# EAGLE library part NCP2890 (library QuantumOptics)
1W Audio Amp, On Semi, 2.6-5V. http://www.onsemi.com/PowerSolutions/product.do?id=NCP2890
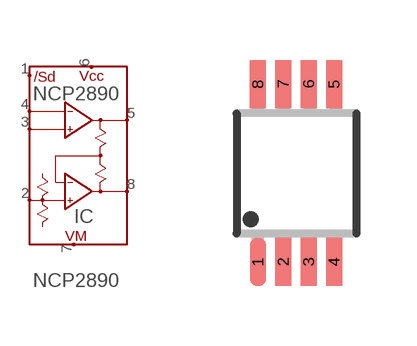
[diagram p79: symbol with the pads of MSOP8; footprint MSOP8]

Designator prefix IC

## NCP2890DRM2  [MSOP8]
1  ~SD  in
2  BYPASS  in
3  IN+  in
4  IN-  in
5  Q  out
6  VCC
7  VM
8  Q_NOT  out

## Footprint MSOP8 (pad centres in mm)
MSOP-8, A.K.A. RM-8. Use 0.025" grid.
smd 0.4 x 1.2: 1 -0.635,-1.905; 2 0,-1.905; 3 0.635,-1.905; 4 1.27,-1.905; 5 1.27,2.54; 6 0.635,2.54; 7 0,2.54; 8 -0.635,2.54